# Altium footprint library ds1021_1x8sf11_b.PcbLib: 1 footprints
Each footprint in its own frame and in the unit in brackets; x right, y up, seen from the top. Pads: shape width x height; smd on the part's side, far side on the other; paste and mask are expansions set on the pad; w line width, h text height; cw(c..) or ccw(c..) is an arc to the next point about the centre after c.
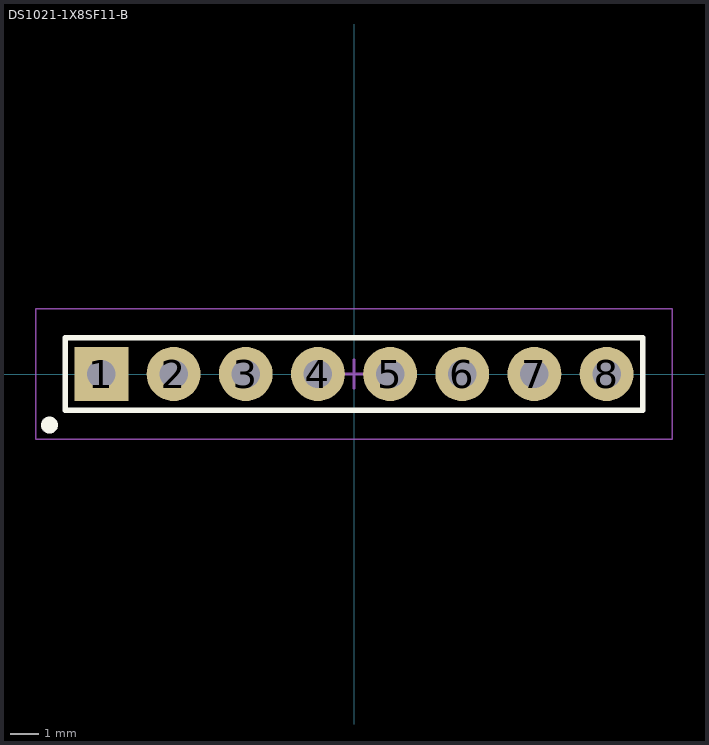
[diagram p0: the footprint, top view; thin cyan lines are the x and y axes]

## DS1021-1X8SF11-B [mm] "PLS 8 Pins 2,54mm Plug Header V/T Type"
height 8.6
pads (8):
  rect 1.9x1.9 hole 1: 1(-8.89,0)
  round 1.9 hole 1: 2(-6.35,0) 3(-3.81,0) 4(-1.27,0) 5(1.27,0) 6(3.81,0) 7(6.35,0) 8(8.89,0)
Top Overlay:
  circle w0.6: c-10.72,-1.8 r0.001
  lines w0.2: -10.165,-1.275 10.165,-1.275 10.165,1.275 -10.165,1.275 -10.165,-1.275
Top Comment:
  text ".Comment" at 0.9,2.6 h1.2
Top Designator:
  text ".Designator" at -0.3,2.6 h1.2
Top Component Outline:
  circle w0.35: c-9.415,0.325 r0.15
  lines w0.1: -10.165,-1.275 -10.165,1.275 10.165,1.275 10.165,-1.275 -10.165,-1.275
Top Courtyard (Mech15):
  lines w0.05: -11.2,-2.3 11.2,-2.3 11.2,2.3 -11.2,2.3 -11.2,-2.3
  lines w0.1: -0.5,0 0.5,0 ; 0,-0.5 0,0.5
3D body "User Library-1x8 TH Pitch 2_54mm.STEP": height 9.2, standoff -3.5, extent -10.165,-1.275 10.155,1.265